# Altium schematic symbol library MP-3030-210H-40-95.SchLib: 1 symbol
Pins are listed as number, name and electrical type; pins without a type are passive.

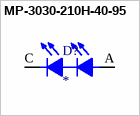
[diagram p0: symbol MP-3030-210H-40-95]

## MP-3030-210H-40-95
designator D?
LED Lighting MP-3030 Horticulture White, Neutral 4000K 6V 150mA 110Â° 1212 (3030 Metric); MP: MP-3030-210H-40-95; MF: Luminus Devices Inc.; Package: 1212 Luminus Devices; Check_prices: https://www.snapeda.com/parts/MP-3030-210H-40-95/Luminus+Devices+Inc./view-part/?ref=eda; Value: *; Availability: In Stock; Purchase-URL: https://pricing.snapeda.com/search/part/MP-3030-210H-40-95/?ref=eda; SnapEDA_Link: https://www.snapeda.com/parts/MP-3030-210H-40-95/Luminus+Devices+Inc./view-part/?ref=snap; Price: None
footprint LED_MP-3030-210H-40-95
pins: A, C